# Altium schematic symbol library M20050-1.SchLib: 1 symbol
Pins are listed as number, name and electrical type; pins without a type are passive.

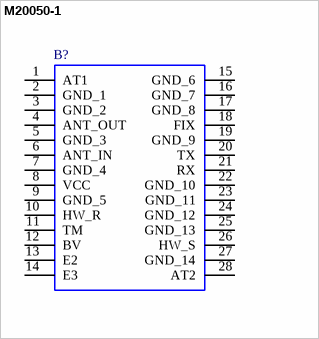
[diagram p0: symbol M20050-1]

## M20050-1
designator B?
Antennas GPS/GNSS RADIONOVA RF Module MTK chipset; Manufacturer_Name: Antenova; Geometry.Height: 2mm; Manufacturer_Part_Number: M20050-1; Mouser Part Number: 237-M20050-1; Mouser Price/Stock: https://www.mouser.co.uk/ProductDetail/Antenova/M20050-1?qs=j%252B1pi9TdxUa935Cnq0dcJA%3D%3D; Arrow Part Number: M20050-1; Arrow Price/Stock: https://www.arrow.com/en/products/m20050-1/antenova?region=nac; Mouser Testing Part Number: *; Mouser Testing Price/Stock: *; Datasheet Link: https://www.mouser.com/datasheet/2/23/antenova_M20050-1-1279284.pdf
footprint M200501
pins: 1 AT1, 2 GND_1, 3 GND_2, 4 ANT_OUT, 5 GND_3, 6 ANT_IN, 7 GND_4, 8 VCC, 9 GND_5, 10 HW_R, 11 TM, 12 BV, 13 E2, 14 E3, 15 GND_6, 16 GND_7, 17 GND_8, 18 FIX, 19 GND_9, 20 TX, 21 RX, 22 GND_10, 23 GND_11, 24 GND_12, 25 GND_13, 26 HW_S, 27 GND_14, 28 AT2